# Altium footprint library STM32F051C6Breakout.PcbLib: 4 footprints
Each footprint in its own frame and in the unit in brackets; x right, y up, seen from the top. Pads: shape width x height; smd on the part's side, far side on the other; paste and mask are expansions set on the pad; w line width, h text height; cw(c..) or ccw(c..) is an arc to the next point about the centre after c.
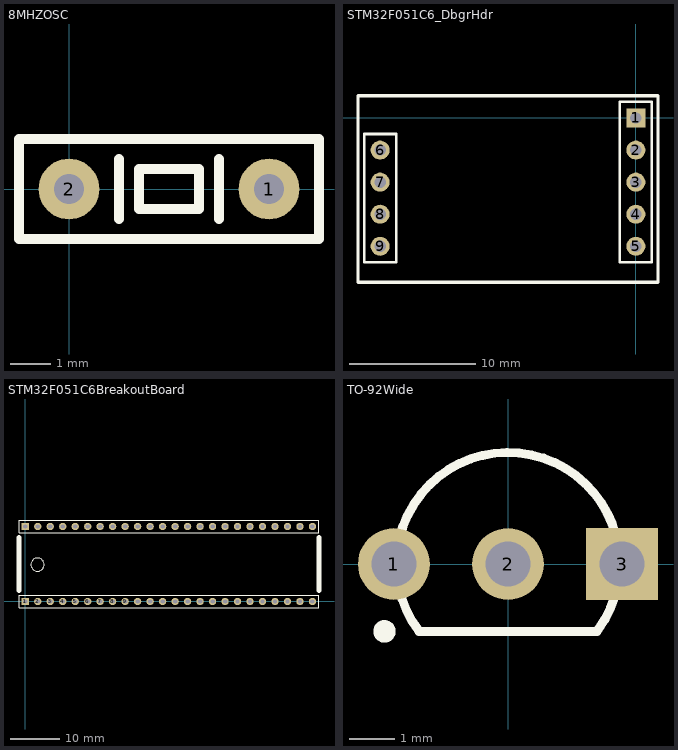
[diagram p0: the footprints below, top view; thin cyan lines are the x and y axes]

## 8MHZOSC [mil]
height 196.85
pads (2):
  round 60 hole 30: 1(196.85,0) 2(0,0)
Top Overlay:
  lines w10: 49.21,-29.53 49.21,29.53 ; 147.64,-29.53 147.64,29.53 ; -49.21,-49.21 -49.21,49.21 246.06,49.21 246.06,-49.21 -49.21,-49.21 ; 68.9,-19.68 127.95,-19.68 127.95,19.68 68.9,19.68 68.9,-19.68

## STM32F051C6_DbgrHdr [mm]
pads (9):
  rect 1.5x1.5 hole 0.9: 1(0,0)
  round 1.5 hole 0.9: 2(0,-2.54) 3(0,-5.08) 4(0,-7.62) 5(0,-10.16) 6(-20.25,-2.54) 7(-20.25,-5.08) 8(-20.25,-7.62) 9(-20.25,-10.16)
Top Overlay:
  lines w0.2: -21.52,-11.43 -18.98,-11.43 -18.98,-1.27 -21.52,-1.27 -21.52,-11.43 ; -1.27,-11.43 1.27,-11.43 1.27,1.27 -1.27,1.27 -1.27,-11.43
  lines w0.254: -22,-13 1.5,-13 1.75,-13 1.75,1.75 -21.75,1.75 -22,1.75 -22,-13

## STM32F051C6BreakoutBoard [mm]
height 0.381
pads (48):
  rect 1.5x1.5 hole 0.9: 1(0,0) 48(0,15.25)
  round 1.5 hole 0.9: 2(2.54,0) 3(5.08,0) 4(7.62,0) 5(10.16,0) 6(12.7,0) 7(15.24,0) 8(17.78,0) 9(20.32,0) 10(22.86,0) 11(25.4,0) 12(27.94,0) 13(30.48,0) 14(33.02,0) 15(35.56,0) 16(38.1,0) 17(40.64,0) 18(43.18,0) 19(45.72,0) 20(48.26,0) 21(50.8,0) 22(53.34,0) 23(55.88,0) 24(58.42,0) 25(58.42,15.25) 26(55.88,15.25) 27(53.34,15.25) 28(50.8,15.25) 29(48.26,15.25) 30(45.72,15.25) 31(43.18,15.25) 32(40.64,15.25) 33(38.1,15.25) 34(35.56,15.25) 35(33.02,15.25) 36(30.48,15.25) 37(27.94,15.25) 38(25.4,15.25) 39(22.86,15.25) 40(20.32,15.25) 41(17.78,15.25) 42(15.24,15.25) 43(12.7,15.25) 44(10.16,15.25) 45(7.62,15.25) 46(5.08,15.25) 47(2.54,15.25)
Top Overlay:
  circle w0.254: c2.5,7.5 r1.346
  lines w0.2: -1.27,-1.27 59.69,-1.27 59.69,1.27 0.635,1.27 -1.27,1.27 -1.27,-1.27 ; -1.27,13.98 -1.27,16.52 0.635,16.52 59.69,16.52 59.69,13.98 -1.27,13.98
  lines w1: -1.25,2.25 -1.25,13 ; 59.75,2.25 59.75,13

## TO-92Wide [mm]
pads (3):
  round 1.6 hole 1: 1(-2.54,0) 2(0,0)
  rect 1.6x1.6 hole 1: 3(2.54,0)
Top Overlay:
  circle w0.25: c-2.75,-1.5 r0.125
  lines w0.2: 1.98,-1.5 -1.98,-1.5 cw(c0,0) 2.009,-1.461
3D body: height 6.86, standoff 2.2, extent -2.497,-1.501 2.497,2.497